# EAGLE library part M38123(64PIN) (library renesas_mcu)
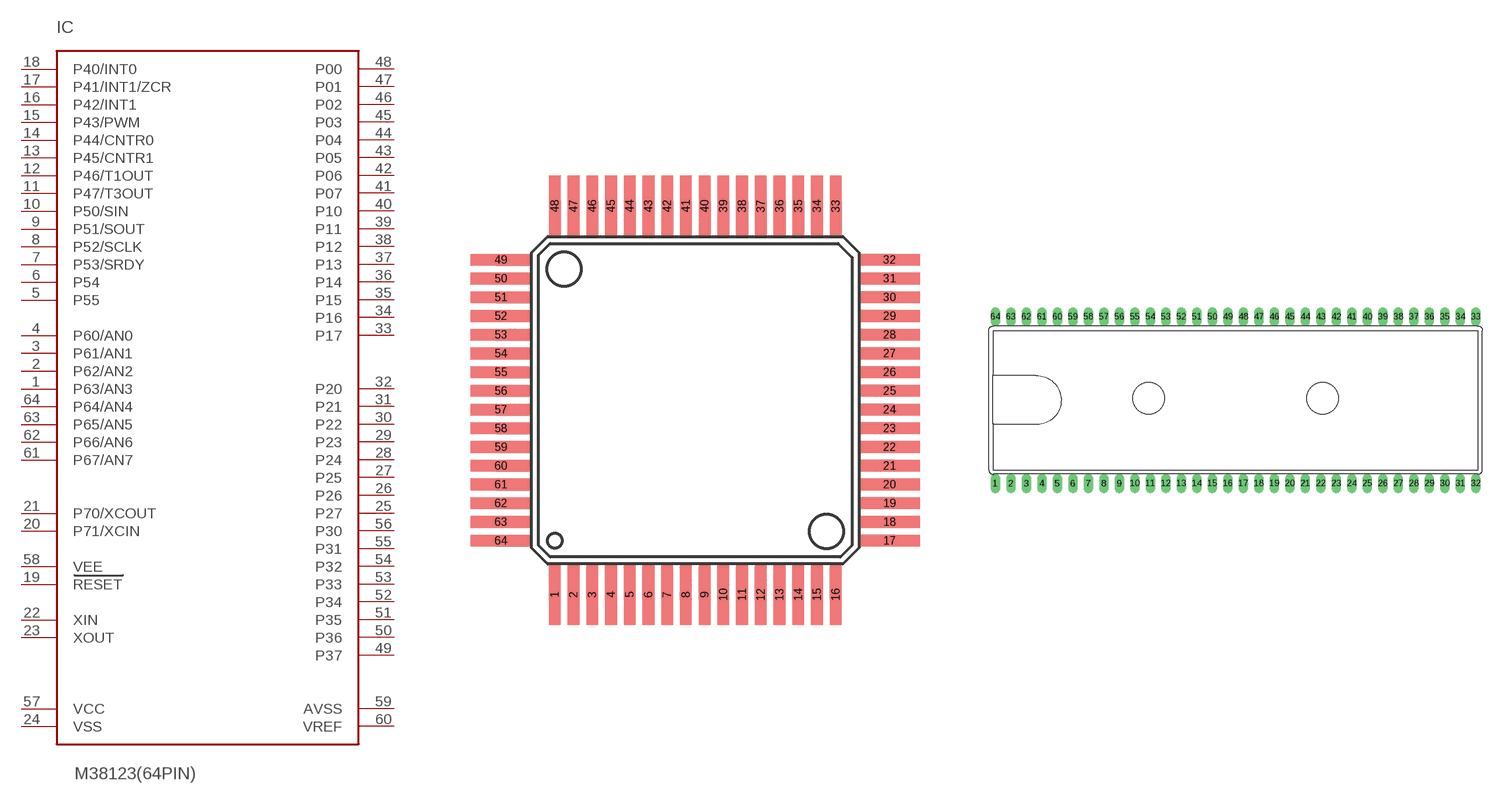
[diagram p70: symbol with the pads of 64P6N-A; footprints 64P6N-A, 64P4B]

Designator prefix IC

## M38123(64PIN)FP  [64P6N-A]
1  P63/AN3
2  P62/AN2
3  P61/AN1
4  P60/AN0
5  P55
6  P54
7  P53/SRDY
8  P52/SCLK
9  P51/SOUT
10  P50/SIN
11  P47/T3OUT
12  P46/T1OUT
13  P45/CNTR1
14  P44/CNTR0
15  P43/PWM
16  P42/INT1
17  P41/INT1/ZCR
18  P40/INT0
19  RESET  in
20  P71/XCIN
21  P70/XCOUT
22  XIN
23  XOUT  out
24  VSS  pwr
25  P27
26  P26
27  P25
28  P24
29  P23
30  P22
31  P21
32  P20
33  P17
34  P16
35  P15
36  P14
37  P13
38  P12
39  P11
40  P10
41  P07
42  P06
43  P05
44  P04
45  P03
46  P02
47  P01
48  P00
49  P37
50  P36
51  P35
52  P34
53  P33
54  P32
55  P31
56  P30
57  VCC  pwr
58  VEE  in
59  AVSS  in
60  VREF  in
61  P67/AN7
62  P66/AN6
63  P65/AN5
64  P64/AN4

## M38123(64PIN)  [64P4B]
1  VCC  pwr
2  VEE  in
3  AVSS  in
4  VREF  in
5  P67/AN7
6  P66/AN6
7  P65/AN5
8  P64/AN4
9  P63/AN3
10  P62/AN2
11  P61/AN1
12  P60/AN0
13  P55
14  P54
15  P53/SRDY
16  P52/SCLK
17  P51/SOUT
18  P50/SIN
19  P47/T3OUT
20  P46/T1OUT
21  P45/CNTR1
22  P44/CNTR0
23  P43/PWM
24  P42/INT1
25  P41/INT1/ZCR
26  P40/INT0
27  RESET  in
28  P71/XCIN
29  P70/XCOUT
30  XIN
31  XOUT  out
32  VSS  pwr
33  P27
34  P26
35  P25
36  P24
37  P23
38  P22
39  P21
40  P20
41  P17
42  P16
43  P15
44  P14
45  P13
46  P12
47  P11
48  P10
49  P07
50  P06
51  P05
52  P04
53  P03
54  P02
55  P01
56  P00
57  P37
58  P36
59  P35
60  P34
61  P33
62  P32
63  P31
64  P30

## Footprint 64P6N-A (pad centres in mm)
smd 0.5 x 2.6: 1 -6,-8.3; 2 -5.2,-8.3; 3 -4.4,-8.3; 4 -3.6,-8.3; 5 -2.8,-8.3; 6 -2,-8.3; 7 -1.2,-8.3; 8 -0.4,-8.3; 9 0.4,-8.3; 10 1.2,-8.3; 11 2,-8.3; 12 2.8,-8.3; 13 3.6,-8.3; 14 4.4,-8.3; 15 5.2,-8.3; 16 6,-8.3; 33 6,8.3; 34 5.2,8.3; 35 4.4,8.3; 36 3.6,8.3; 37 2.8,8.3; 38 2,8.3; 39 1.2,8.3; 40 0.4,8.3; 41 -0.4,8.3; 42 -1.2,8.3; 43 -2,8.3; 44 -2.8,8.3; 45 -3.6,8.3; 46 -4.4,8.3; 47 -5.2,8.3; 48 -6,8.3
smd 2.6 x 0.5: 17 8.3,-6; 18 8.3,-5.2; 19 8.3,-4.4; 20 8.3,-3.6; 21 8.3,-2.8; 22 8.3,-2; 23 8.3,-1.2; 24 8.3,-0.4; 25 8.3,0.4; 26 8.3,1.2; 27 8.3,2; 28 8.3,2.8; 29 8.3,3.6; 30 8.3,4.4; 31 8.3,5.2; 32 8.3,6; 49 -8.3,6; 50 -8.3,5.2; 51 -8.3,4.4; 52 -8.3,3.6; 53 -8.3,2.8; 54 -8.3,2; 55 -8.3,1.2; 56 -8.3,0.4; 57 -8.3,-0.4; 58 -8.3,-1.2; 59 -8.3,-2; 60 -8.3,-2.8; 61 -8.3,-3.6; 62 -8.3,-4.4; 63 -8.3,-5.2; 64 -8.3,-6

## Footprint 64P4B (pad centres in mm)
drill 0.61 long: 1 -27.559,-9.557; 2 -25.781,-9.557; 3 -24.003,-9.557; 4 -22.225,-9.557; 5 -20.447,-9.557; 6 -18.669,-9.557; 7 -16.891,-9.557; 8 -15.113,-9.557; 9 -13.335,-9.557; 10 -11.557,-9.557; 11 -9.779,-9.557; 12 -8.001,-9.557; 13 -6.223,-9.557; 14 -4.445,-9.557; 15 -2.667,-9.557; 16 -0.889,-9.557; 17 0.889,-9.557; 18 2.667,-9.557; 19 4.445,-9.557; 20 6.223,-9.557; 21 8.001,-9.557; 22 9.779,-9.557; 23 11.557,-9.557; 24 13.335,-9.557; 25 15.113,-9.557; 26 16.891,-9.557; 27 18.669,-9.557; 28 20.447,-9.557; 29 22.225,-9.557; 30 24.003,-9.557; 31 25.781,-9.557; 32 27.559,-9.557; 33 27.559,9.557; 34 25.781,9.557; 35 24.003,9.557; 36 22.225,9.557; 37 20.447,9.557; 38 18.669,9.557; 39 16.891,9.557; 40 15.113,9.557; 41 13.335,9.557; 42 11.557,9.557; 43 9.779,9.557; 44 8.001,9.557; 45 6.223,9.557; 46 4.445,9.557; 47 2.667,9.557; 48 0.889,9.557; 49 -0.889,9.557; 50 -2.667,9.557; 51 -4.445,9.557; 52 -6.223,9.557; 53 -8.001,9.557; 54 -9.779,9.557; 55 -11.557,9.557; 56 -13.335,9.557; 57 -15.113,9.557; 58 -16.891,9.557; 59 -18.669,9.557; 60 -20.447,9.557; 61 -22.225,9.557; 62 -24.003,9.557; 63 -25.781,9.557; 64 -27.559,9.557